# EAGLE library part SWITCH-2CH-6P-REINFORCE (library Discrete)
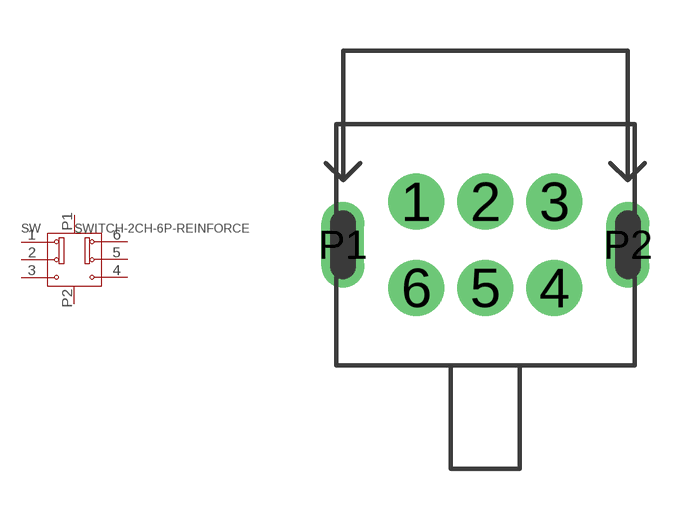
[diagram p15: symbol with the pads of 6P-2CH-8.8X7.0X4.7H-90D; footprint 6P-2CH-8.8X7.0X4.7H-90D]

Designator prefix SW

## SWITCH-2CH-6P-REINFORCE'SK-22D03-G5'  [6P-2CH-8.8X7.0X4.7H-90D]
1  P$1
2  P$2
3  P$3
4  P$6
5  P$5
6  P$4
P1  P$7
P2  P$8

## Footprint 6P-2CH-8.8X7.0X4.7H-90D (pad centres in mm)
drill 0.889 pad 1.651: 1 -2.032,1.27; 2 0,1.27; 3 2.032,1.27; 4 2.032,-1.27; 5 0,-1.27; 6 -2.032,-1.27
drill 0.762 pad 1.27 long: P1 -4.2,0; P2 4.2,0